# Altium footprint library Electro-Mechanical.PcbLib: 37 footprints (part 1 of 3)
Each footprint in its own frame and in the unit in brackets; x right, y up, seen from the top. Pads: shape width x height; smd on the part's side, far side on the other; paste and mask are expansions set on the pad; w line width, h text height; cw(c..) or ccw(c..) is an arc to the next point about the centre after c.
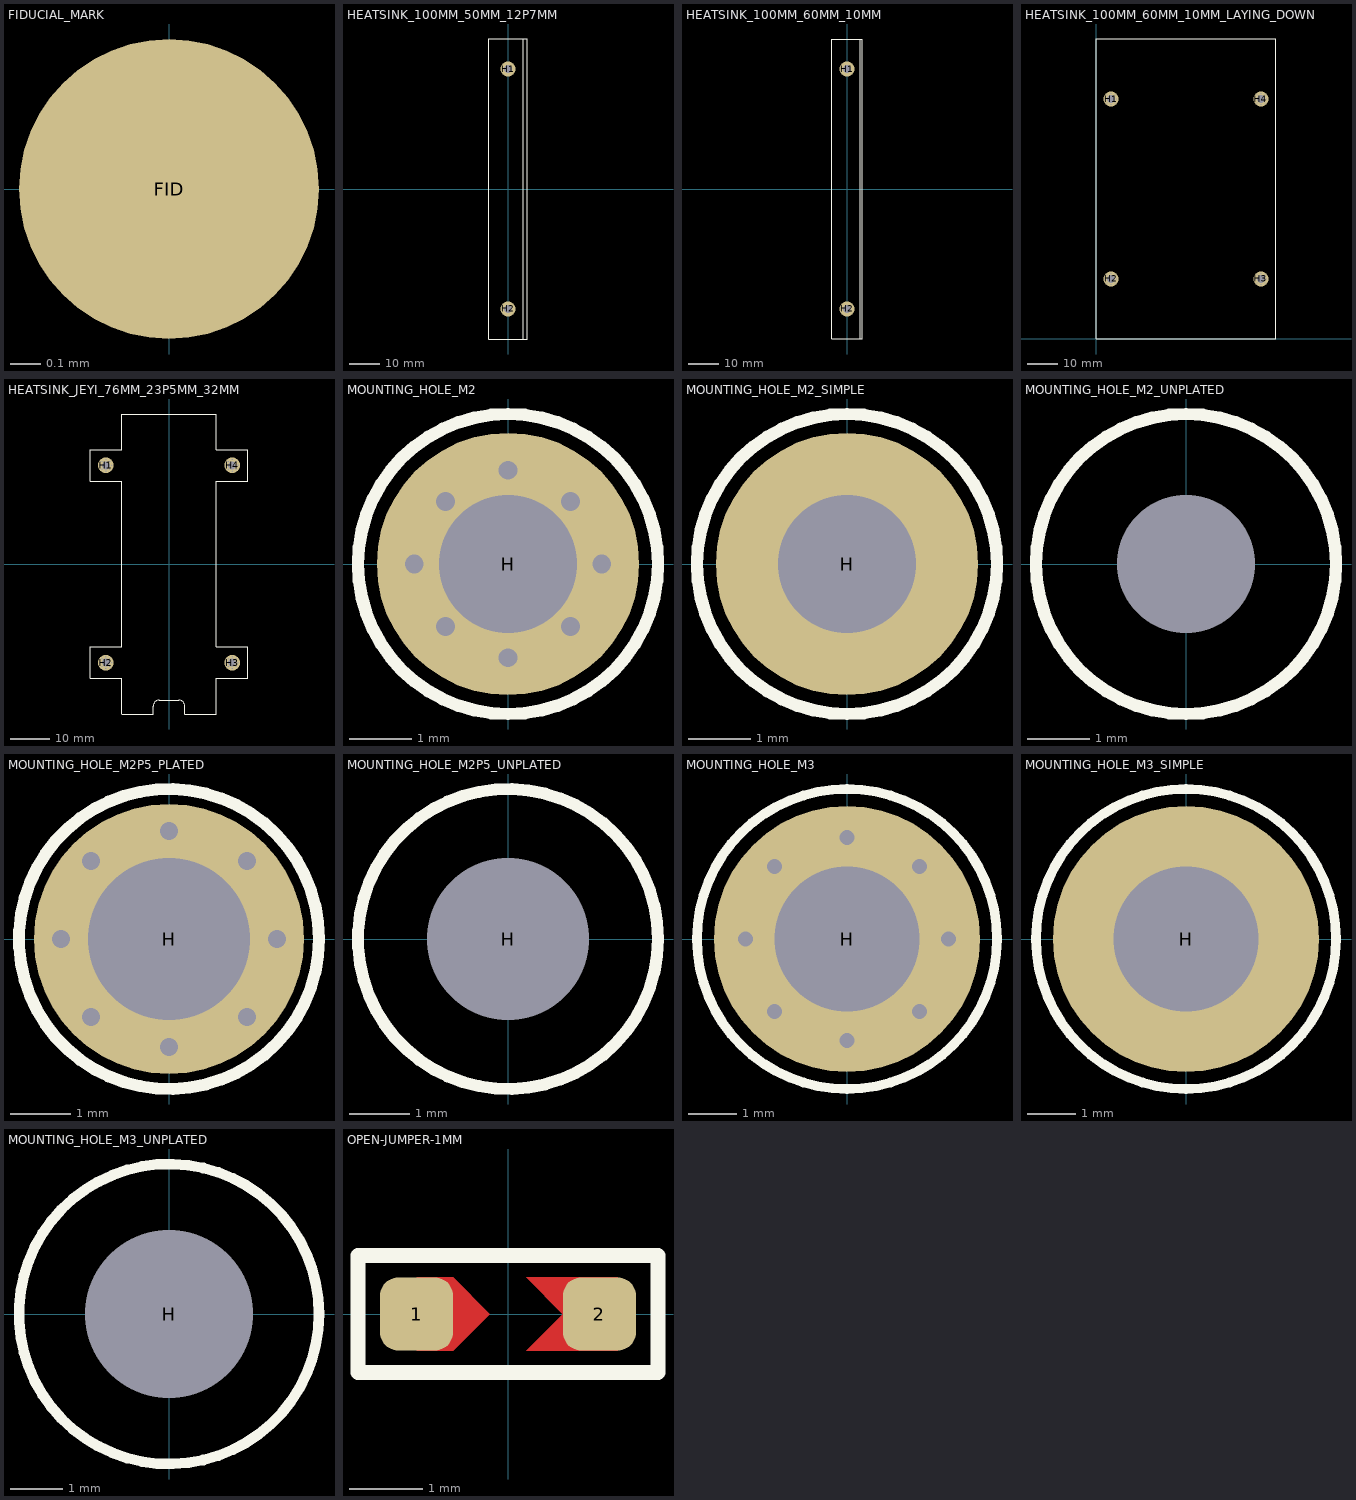
[diagram p0: the footprints below, top view; thin cyan lines are the x and y axes]

## FIDUCIAL_MARK [mm]
pads (1):
  round 1 smd mask+1: FID(0,0)
3D body: height -0.1, standoff -0.2, extent -0.5,-0.5 0.5,0.5

## HEATSINK_10MM_10MM_7MM [mm]
3D body "DISSIPADOR_10x10x7.STEP": height 8.2, standoff 1.2, extent -5,-5 5,5

## HEATSINK_70MM_21MM_4MM [mm]
3D body "DISSIPADOR_70x21x4.STEP": height 1.2, standoff -2.8, extent -35,-10.5 35,10.5

## HEATSINK_100MM_50MM_12P7MM [mm]
pads (2):
  round 5 hole 2.7: H1(0,40) H2(0,-40)
Top Overlay:
  lines w0.2: 5,-50 5,50 ; -6.35,-50 6.35,-50 6.35,50 -6.35,50 -6.35,-50
Bottom Overlay:
  circle w0.2: c0,40 r3.4
  circle w0.2: c0,-40 r3.4
3D body "Dissipador PFC TCC.STEP": height 50, standoff 0, extent -6.35,-50 6.35,50

## HEATSINK_100MM_60MM_10MM [mm]
pads (2):
  round 5 hole 2.7: H1(0,40) H2(0,-40)
Top Overlay:
  lines w0.2: 4.5,-50 4.5,50 ; -5,-50 5,-50 5,50 -5,50 -5,-50
Bottom Overlay:
  circle w0.2: c0,40 r3.4
  circle w0.2: c0,-40 r3.4
3D body "Dissipador PFC TCC 100x60x10.STEP": height 60, standoff 0, extent -5,-50 5,50

## HEATSINK_100MM_60MM_10MM_LAYING_DOWN [mm]
pads (4):
  round 5 hole 2.7: H1(5,80) H2(5,20) H3(55,20) H4(55,80)
via 5,81.8 diameter 0.6 hole 0.3
via 5,78.2 diameter 0.6 hole 0.3
via 3.2,80 diameter 0.6 hole 0.3
via 6.8,80 diameter 0.6 hole 0.3
via 6.3,78.7 diameter 0.6 hole 0.3
via 3.7,78.7 diameter 0.6 hole 0.3
via 3.7,81.3 diameter 0.6 hole 0.3
via 6.3,81.3 diameter 0.6 hole 0.3
via 55,81.8 diameter 0.6 hole 0.3
via 55,78.2 diameter 0.6 hole 0.3
via 53.2,80 diameter 0.6 hole 0.3
via 56.8,80 diameter 0.6 hole 0.3
via 56.3,78.7 diameter 0.6 hole 0.3
via 53.7,78.7 diameter 0.6 hole 0.3
via 53.7,81.3 diameter 0.6 hole 0.3
via 56.3,81.3 diameter 0.6 hole 0.3
via 5,21.8 diameter 0.6 hole 0.3
via 5,18.2 diameter 0.6 hole 0.3
via 3.2,20 diameter 0.6 hole 0.3
via 6.8,20 diameter 0.6 hole 0.3
via 6.3,18.7 diameter 0.6 hole 0.3
via 3.7,18.7 diameter 0.6 hole 0.3
via 3.7,21.3 diameter 0.6 hole 0.3
via 6.3,21.3 diameter 0.6 hole 0.3
via 55,21.8 diameter 0.6 hole 0.3
via 55,18.2 diameter 0.6 hole 0.3
via 53.2,20 diameter 0.6 hole 0.3
via 56.8,20 diameter 0.6 hole 0.3
via 56.3,18.7 diameter 0.6 hole 0.3
via 53.7,18.7 diameter 0.6 hole 0.3
via 53.7,21.3 diameter 0.6 hole 0.3
via 56.3,21.3 diameter 0.6 hole 0.3
Top Overlay:
  lines w0.2: 0,0 60,0 60,100 0,100 0,0
Bottom Overlay:
  circle w0.2: c55,80 r3.4
  circle w0.2: c55,20 r3.4
  circle w0.2: c5,20 r3.4
  circle w0.2: c5,80 r3.4
3D body "Dissipador PFC TCC 100x60x10.STEP": height 10, standoff 0, extent 0,0 60,100

## HEATSINK_JEYI_76MM_23P5MM_32MM [mm]
pads (4):
  round 4 hole 2: H1(-16,25) H2(-16,-25) H3(16,-25) H4(16,25)
via -17,-26 diameter 0.8 hole 0.3
via -15,-26 diameter 0.8 hole 0.3
via -15,-24 diameter 0.8 hole 0.3
via -17,-24 diameter 0.8 hole 0.3
via -17.5,-25 diameter 0.8 hole 0.3
via -14.5,-25 diameter 0.8 hole 0.3
via -16,-26.5 diameter 0.8 hole 0.3
via -16,-23.5 diameter 0.8 hole 0.3
via 15,-26 diameter 0.8 hole 0.3
via 17,-26 diameter 0.8 hole 0.3
via 17,-24 diameter 0.8 hole 0.3
via 15,-24 diameter 0.8 hole 0.3
via 14.5,-25 diameter 0.8 hole 0.3
via 17.5,-25 diameter 0.8 hole 0.3
via 16,-26.5 diameter 0.8 hole 0.3
via 16,-23.5 diameter 0.8 hole 0.3
via 15,24 diameter 0.8 hole 0.3
via 17,24 diameter 0.8 hole 0.3
via 17,26 diameter 0.8 hole 0.3
via 15,26 diameter 0.8 hole 0.3
via 14.5,25 diameter 0.8 hole 0.3
via 17.5,25 diameter 0.8 hole 0.3
via 16,23.5 diameter 0.8 hole 0.3
via 16,26.5 diameter 0.8 hole 0.3
via -17,24 diameter 0.8 hole 0.3
via -15,24 diameter 0.8 hole 0.3
via -15,26 diameter 0.8 hole 0.3
via -17,26 diameter 0.8 hole 0.3
via -17.5,25 diameter 0.8 hole 0.3
via -14.5,25 diameter 0.8 hole 0.3
via -16,23.5 diameter 0.8 hole 0.3
via -16,26.5 diameter 0.8 hole 0.3
Top Overlay:
  lines w0.2: -20,-29 -12,-29 -12,-38 -4,-38 -4,-36 cw(c-2.5,-36) -2.5,-34.5 2.5,-34.5 cw(c2.5,-36) 4,-36 4,-38 12,-38 12,-29 20,-29 20,-21 12,-21 12,21 20,21 20,29 12,29 12,38 -12,38 -12,29 -20,29 -20,21 -12,21 -12,-21 -20,-21 -20,-29
Bottom Overlay:
  circle w0.2: c16,-25 r2.4
  circle w0.2: c-16,-25 r2.4
  circle w0.2: c16,25 r2.4
  circle w0.2: c-16,25 r2.4
3D body "JEYI-M2-2280-MONTADO.STEP": height 33.5, standoff 0, extent -20,-38 20,38

## MOUNTING_HOLE_M2 [mm]
pads (1):
  round 4.2 hole 2.2: H(0,0)
via -1,-1 diameter 0.6 hole 0.3
via 1,-1 diameter 0.6 hole 0.3
via 1,1 diameter 0.6 hole 0.3
via -1,1 diameter 0.6 hole 0.3
via -1.5,0 diameter 0.6 hole 0.3
via 1.5,0 diameter 0.6 hole 0.3
via 0,-1.5 diameter 0.6 hole 0.3
via 0,1.5 diameter 0.6 hole 0.3
Top Overlay:
  circle w0.2: c0,0 r2.4
Bottom Overlay:
  circle w0.2: c0,0 r2.4

## MOUNTING_HOLE_M2_SIMPLE [mm]
pads (1):
  round 4.2 hole 2.2: H(0,0)
Top Overlay:
  circle w0.2: c0,0 r2.4
Bottom Overlay:
  circle w0.2: c0,0 r2.4

## MOUNTING_HOLE_M2_UNPLATED [mm]
pads (1):
  round 0 hole 2.2 unplated: H(0,0)
Top Overlay:
  circle w0.2: c0,0 r2.4
Bottom Overlay:
  circle w0.2: c0,0 r2.4

## MOUNTING_HOLE_M2P5_PLATED [mm]
pads (1):
  round 4.5 hole 2.7: H(0,0)
via 1.3,1.3 diameter 0.6 hole 0.3
via -1.3,1.3 diameter 0.6 hole 0.3
via -1.3,-1.3 diameter 0.6 hole 0.3
via 1.3,-1.3 diameter 0.6 hole 0.3
via 1.8,0 diameter 0.6 hole 0.3
via -1.8,0 diameter 0.6 hole 0.3
via 0,-1.8 diameter 0.6 hole 0.3
via 0,1.8 diameter 0.6 hole 0.3
Top Overlay:
  circle w0.2: c0,0 r2.5
Bottom Overlay:
  circle w0.2: c0,0 r2.5

## MOUNTING_HOLE_M2P5_UNPLATED [mm]
pads (1):
  round 2.5 hole 2.7 unplated: H(0,0)
Top Overlay:
  circle w0.2: c0,0 r2.5
Bottom Overlay:
  circle w0.2: c0,0 r2.5

## MOUNTING_HOLE_M3 [mm]
pads (1):
  round 5.5 hole 3: H(0,0)
via -2.1,0 diameter 0.61 hole 0.305
via -1.5,-1.5 diameter 0.61 hole 0.305
via 0,-2.1 diameter 0.61 hole 0.305
via 1.5,-1.5 diameter 0.61 hole 0.305
via 2.1,0 diameter 0.61 hole 0.305
via 1.5,1.5 diameter 0.61 hole 0.305
via -1.5,1.5 diameter 0.61 hole 0.305
via 0,2.1 diameter 0.61 hole 0.305
Top Overlay:
  circle w0.2: c0,0 r3.1
Bottom Overlay:
  circle w0.2: c0,0 r3.1

## MOUNTING_HOLE_M3_SIMPLE [mm]
pads (1):
  round 5.5 hole 3: H(0,0)
Top Overlay:
  circle w0.2: c0,0 r3.1
Bottom Overlay:
  circle w0.2: c0,0 r3.1

## MOUNTING_HOLE_M3_UNPLATED [mm]
pads (1):
  round 3 hole 3.2 unplated: H(0,0)
Top Overlay:
  circle w0.2: c0,0 r2.85
Bottom Overlay:
  circle w0.2: c0,0 r2.85

## OPEN-JUMPER-1MM [mm]
pads (2):
  rrect50% 1x1 smd mask+0: 1(-1.25,0) 2(1.25,0)
Top Layer:
  region: 0.25,0.5 0.75,0 0.25,-0.5 1.5,-0.5 1.5,0.5
  region: -1.25,0.5 -0.75,0.5 -0.25,0 -0.75,-0.5 -1.25,-0.5
Top Overlay:
  lines w0.2: -2.05,-0.8 2.05,-0.8 2.05,0.8 -2.05,0.8 -2.05,-0.8